# EAGLE library part MAX712/713 (library max712_713)
Maxim 713 NiCd/NiMH Fast-Charge Management IC RS No: 622-8620 MRF No: ?
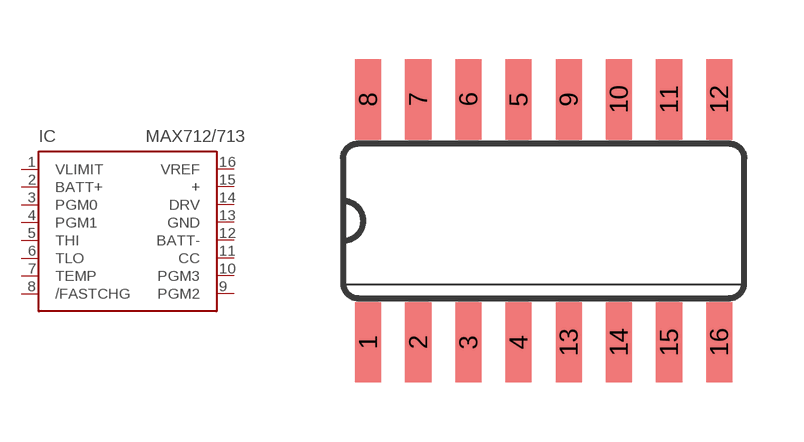
[diagram p0: symbol with the pads of MAX712/713; footprint MAX712/713]

Designator prefix IC

## MAX712/713  [MAX712/713]
1  VLIMIT  pwr
2  BATT+  in
3  PGM0  in
4  PGM1  pwr
5  THI
6  TLO
7  TEMP
8  /FASTCHG
9  PGM2
10  PGM3
11  CC  in
12  BATT-
13  GND
14  DRV  in
15  +  in
16  VREF  in

## Footprint MAX712/713 (pad centres in mm)
smd 0.66 x 2.032: 1 -4.445,-3.073; 2 -3.175,-3.073; 3 -1.905,-3.073; 4 -0.635,-3.073; 5 -0.635,3.073; 6 -1.905,3.073; 7 -3.175,3.073; 8 -4.445,3.073; 9 0.635,3.073; 10 1.905,3.073; 11 3.175,3.073; 12 4.445,3.073; 13 0.635,-3.073; 14 1.905,-3.073; 15 3.175,-3.073; 16 4.445,-3.073